# EAGLE library part FORMULA_LINK (library ElectricNoodleBox)
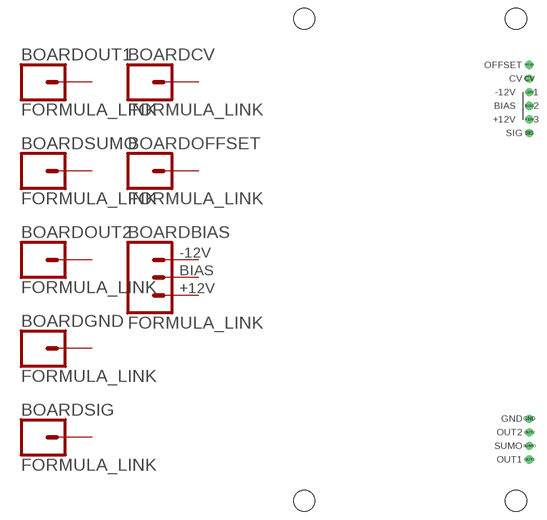
[diagram p37: symbol with the pads of FORMULA; footprint FORMULA]

Designator prefix BOARD; gates OUT1=CONN_01 SUMO=CONN_01 OUT2=CONN_01 GND=CONN_01 SIG=CONN_01 CV=CONN_01 OFFSET=CONN_01 BIAS=CONN_03

## FORMULA_LINK  [FORMULA]
+12V  BIAS:1  pas
-12V  BIAS:3  pas
BIAS  BIAS:2  pas
CV  CV:1  pas
GND  GND:1  pas
OFFSET  OFFSET:1  pas
OUT1  OUT1:1  pas
OUT2  OUT2:1  pas
SIG  SIG:1  pas
SUMO  SUMO:1  pas

## Footprint FORMULA (pad centres in mm)
drill 1.016: +12V 46.99,76.2; -12V 46.99,81.28; BIAS 46.99,78.74; CV 46.99,83.82; GND 46.99,20.32; OFFSET 46.99,86.36; OUT1 46.99,12.7; OUT2 46.99,17.78; SIG 46.99,73.66; SUMO 46.99,15.24
hole 4 at 5,5
hole 4 at 44.5,5
hole 4 at 44.5,95
hole 4 at 5,95